# Altium schematic symbol library NOKIA 5110.SchLib: 1 symbol
Pins are listed as number, name and electrical type; pins without a type are passive.

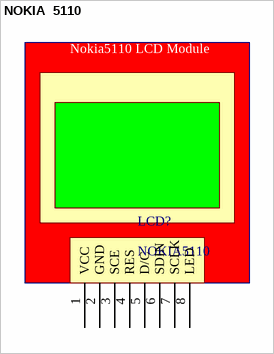
[diagram p0: symbol NOKIA  5110]

## NOKIA  5110
designator LCD?, comment NOKIA5110
footprint NOKIA5110
pins: 1 VCC, 2 GND, 3 SCE, 4 RES, 5 D/C, 6 SDIN, 7 SCLK, 8 LED
text: Nokia5110 LCD Module